# Altium footprint library Nixie_Driver.PcbLib: 4 footprints
Each footprint in its own frame and in the unit in brackets; x right, y up, seen from the top. Pads: shape width x height; smd on the part's side, far side on the other; paste and mask are expansions set on the pad; w line width, h text height; cw(c..) or ccw(c..) is an arc to the next point about the centre after c.
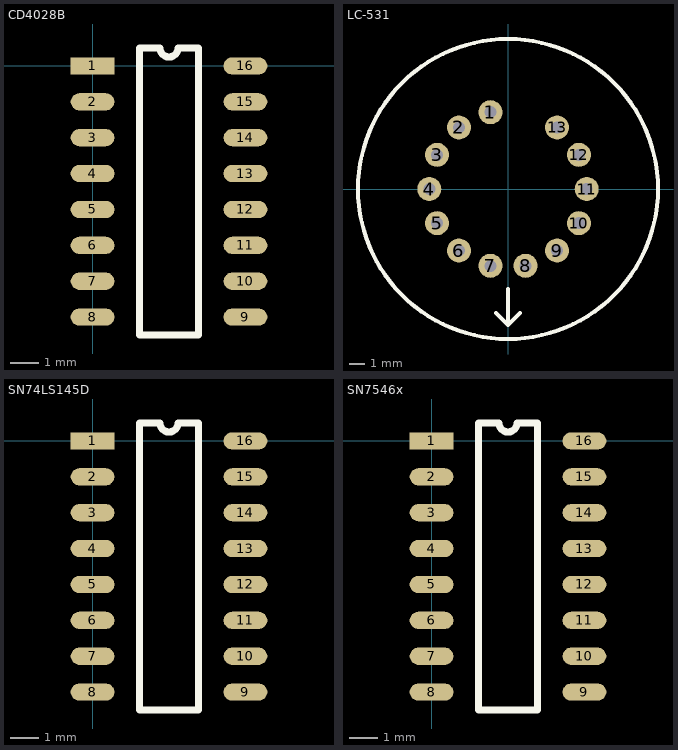
[diagram p0: the footprints below, top view; thin cyan lines are the x and y axes]

## CD4028B [mil]
height 78.74
pads (16):
  rect 61x24 smd: 1(0,0)
  oval 61x24 smd: 2(0,-50) 3(0,-100) 4(0,-150) 5(0,-200) 6(0,-250) 7(0,-300) 8(0,-350) 9(213,-350) 10(213,-300) 11(213,-250) 12(213,-200) 13(213,-150) 14(213,-100) 15(213,-50) 16(213,0)
Top Overlay:
  lines w10: 65.5,-375 65.5,25 94,25 ccw(c106.5,25) 119,25 147.5,25 147.5,-375 65.5,-375
3D body: height 78.74, standoff 0.13, extent -16.32,-373.42 226.32,23.43

## LC-531 [mil] "Nixie tube"
pads (13):
  round 60 hole 30: 1(-43.8,191.91) 2(-122.73,153.9) 3(-177.36,85.41) 4(-196.85,0) 5(-177.36,-85.41) 6(-122.73,-153.9) 7(-43.8,-191.91) 8(43.8,-191.91) 9(122.73,-153.9) 10(177.36,-85.41) 11(196.85,0) 12(177.36,85.41) 13(122.73,153.9)
Top Overlay:
  circle w10: c0,0 r375
  lines w10: 0,-250 0,-340 ; 30,-310 0,-340 ; 0,-340 -30,-310 0,-340
3D body: height 433.07, standoff 39.37, extent -371.06,-368.28 374.02,378.28

## SN74LS145D [mil]
height 78.74
pads (16):
  rect 61x24 smd: 1(0,0)
  oval 61x24 smd: 2(0,-50) 3(0,-100) 4(0,-150) 5(0,-200) 6(0,-250) 7(0,-300) 8(0,-350) 9(213,-350) 10(213,-300) 11(213,-250) 12(213,-200) 13(213,-150) 14(213,-100) 15(213,-50) 16(213,0)
Top Overlay:
  lines w10: 65.5,-375 65.5,25 94,25 ccw(c106.5,25) 119,25 147.5,25 147.5,-375 65.5,-375

## SN7546x [mil]
height 78.74
pads (16):
  rect 61x24 smd: 1(0,0)
  oval 61x24 smd: 2(0,-50) 3(0,-100) 4(0,-150) 5(0,-200) 6(0,-250) 7(0,-300) 8(0,-350) 9(213,-350) 10(213,-300) 11(213,-250) 12(213,-200) 13(213,-150) 14(213,-100) 15(213,-50) 16(213,0)
Top Overlay:
  lines w10: 65.5,-375 147.5,-375 147.5,25 119,25 cw(c106.5,25) 94,25 65.5,25 65.5,-375
3D body: height 78.74, standoff 0.13, extent -16.32,-373.42 226.32,23.43